# Altium footprint library SM_TSOT-23-8.PcbLib: 1 footprints
Each footprint in its own frame and in the unit in brackets; x right, y up, seen from the top. Pads: shape width x height; smd on the part's side, far side on the other; paste and mask are expansions set on the pad; w line width, h text height; cw(c..) or ccw(c..) is an arc to the next point about the centre after c.
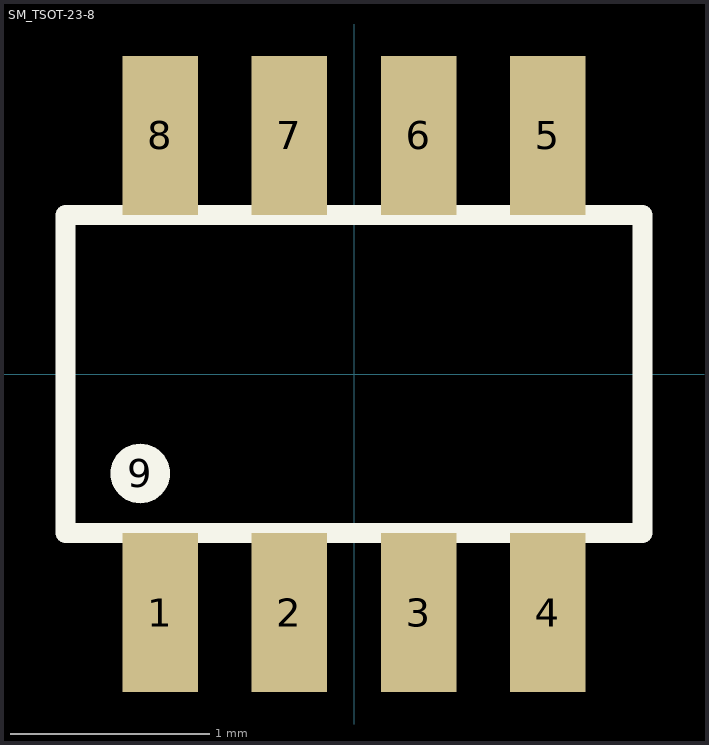
[diagram p0: the footprint, top view; thin cyan lines are the x and y axes]

## SM_TSOT-23-8 [mm]
height 1
pads (9):
  rect 0.38x0.8 smd: 1(-0.975,-1.2) 2(-0.325,-1.2) 3(0.325,-1.2) 4(0.975,-1.2) 5(0.975,1.2) 6(0.325,1.2) 7(-0.325,1.2) 8(-0.975,1.2)
  round 0.3 on Top Overlay: 9(-1.075,-0.5)
Top Overlay:
  lines w0.1: -1.45,-0.8 -1.45,0.8 1.45,0.8 1.45,-0.8 -1.45,-0.8
3D body: height 1, standoff 0, extent -1.5,-0.85 1.5,0.85